# EAGLE library part TJLC-001TA1 (library Taimag)
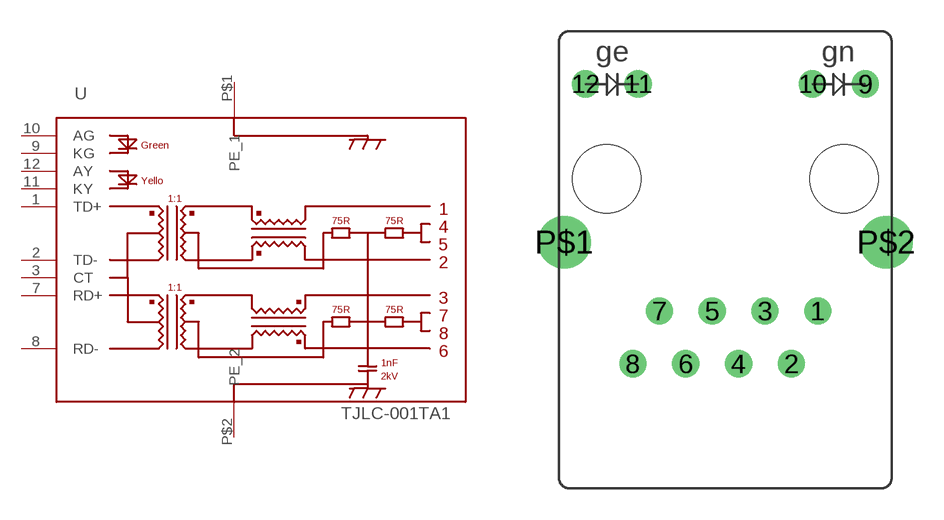
[diagram p0: symbol with the pads of TJLC-001TA1; footprint TJLC-001TA1]

Designator prefix -

## TJLC-001TA1  [TJLC-001TA1]
1  TD+
2  TD-
3  CT
7  RD+
8  RD-
9  KG
10  AG
11  KY
12  AY
P$1  PE_1  pwr
P$2  PE_2  pwr

## Footprint TJLC-001TA1 (pad centres in mm)
drill 0.8 pad 1.27: 1 4.445,0; 2 3.175,-2.54; 3 1.905,0; 4 0.635,-2.54; 5 -0.635,0; 6 -1.905,-2.54; 7 -3.175,0; 8 -4.445,-2.54; 9 6.73,10.92; 10 4.19,10.92; 11 -4.19,10.92; 12 -6.73,10.92
drill 1.6 pad 2.54: P$1 -7.745,3.3; P$2 7.745,3.3
hole 3.3 at 5.715,6.35
hole 3.3 at -5.715,6.35